# EAGLE library part MPU6000 (library pepelac)
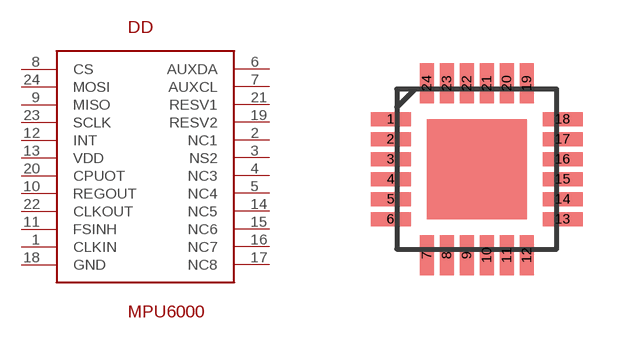
[diagram p8: symbol with the pads of JEDEC; footprint JEDEC]

Designator prefix DD

## MPU6000  [JEDEC]
1  CLKIN
2  NC1
3  NS2
4  NC3
5  NC4
6  AUXDA
7  AUXCL
8  CS
9  MISO
10  REGOUT
11  FSINH
12  INT
13  VDD
14  NC5
15  NC6
16  NC7
17  NC8
18  GND
19  RESV2
20  CPUOT
21  RESV1
22  CLKOUT
23  SCLK
24  MOSI

## Footprint JEDEC (pad centres in mm)
smd 1 x 0.35: 1 -2.15,1.25; 2 -2.15,0.75; 3 -2.15,0.25; 4 -2.15,-0.25; 5 -2.15,-0.75; 6 -2.15,-1.25; 13 2.15,-1.25; 14 2.15,-0.75; 15 2.15,-0.25; 16 2.15,0.25; 17 2.15,0.75; 18 2.15,1.25
smd 0.35 x 1: 7 -1.25,-2.15; 8 -0.75,-2.15; 9 -0.25,-2.15; 10 0.25,-2.15; 11 0.75,-2.15; 12 1.25,-2.15; 19 1.25,2.15; 20 0.75,2.15; 21 0.25,2.15; 22 -0.25,2.15; 23 -0.75,2.15; 24 -1.25,2.15